# EAGLE library part LH52256CHN (library memory-sram)
MEMORY
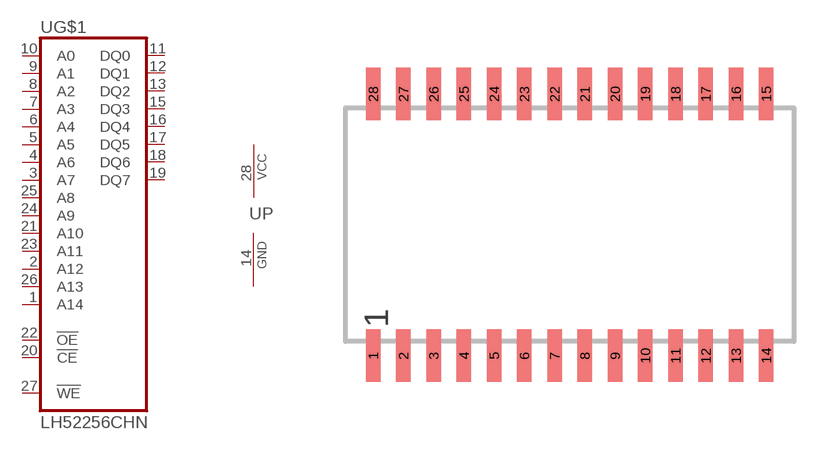
[diagram p21: symbol with the pads of SOP28; footprint SOP28]

Designator prefix U; gates P=PWRN G$1=LH52256

## LH52256CHN  [SOP28]
1  G$1:A14  in
2  G$1:A12  in
3  G$1:A7  in
4  G$1:A6  in
5  G$1:A5  in
6  G$1:A4  in
7  G$1:A3  in
8  G$1:A2  in
9  G$1:A1  in
10  G$1:A0  in
11  G$1:DQ0
12  G$1:DQ1
13  G$1:DQ2
14  P:GND  pwr
15  G$1:DQ3
16  G$1:DQ4
17  G$1:DQ5
18  G$1:DQ6
19  G$1:DQ7
20  G$1:!CE!  in
21  G$1:A10  in
22  G$1:!OE!  in
23  G$1:A11  in
24  G$1:A9  in
25  G$1:A8  in
26  G$1:A13  in
27  G$1:!WE!  in
28  P:VCC  pwr

## Footprint SOP28 (pad centres in mm)
SMALL OUTLINE PACKAGE
smd 0.6 x 2.2: 1 -8.255,-5.5; 2 -6.985,-5.5; 3 -5.715,-5.5; 4 -4.445,-5.5; 5 -3.175,-5.5; 6 -1.905,-5.5; 7 -0.635,-5.5; 8 0.635,-5.5; 9 1.905,-5.5; 10 3.175,-5.5; 11 4.445,-5.5; 12 5.715,-5.5; 13 6.985,-5.5; 14 8.255,-5.5; 15 8.255,5.5; 16 6.985,5.5; 17 5.715,5.5; 18 4.445,5.5; 19 3.175,5.5; 20 1.905,5.5; 21 0.635,5.5; 22 -0.635,5.5; 23 -1.905,5.5; 24 -3.175,5.5; 25 -4.445,5.5; 26 -5.715,5.5; 27 -6.985,5.5; 28 -8.255,5.5